# Altium schematic symbol library STM32U083KCU6.SchLib: 1 symbol
Pins are listed as number, name and electrical type; pins without a type are passive.

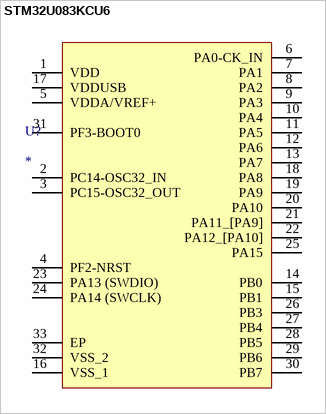
[diagram p0: symbol STM32U083KCU6]

## STM32U083KCU6
designator U?
Value: *
pins: 1 VDD, 2 PC14-OSC32_IN, 3 PC15-OSC32_OUT, 4 PF2-NRST, 5 VDDA/VREF+, 6 PA0-CK_IN, 7 PA1, 8 PA2, 9 PA3, 10 PA4, 11 PA5, 12 PA6, 13 PA7, 14 PB0, 15 PB1, 16 VSS_1, 17 VDDUSB, 18 PA8, 19 PA9, 20 PA10, 21 PA11_[PA9], 22 PA12_[PA10], 23 PA13 (SWDIO), 24 PA14 (SWCLK), 25 PA15, 26 PB3, 27 PB4, 28 PB5, 29 PB6, 30 PB7, 31 PF3-BOOT0, 32 VSS_2, 33 EP